# Altium footprint library NEW.PcbLib: 110 footprints (part 5 of 7)
Each footprint in its own frame and in the unit in brackets; x right, y up, seen from the top. Pads: shape width x height; smd on the part's side, far side on the other; paste and mask are expansions set on the pad; w line width, h text height; cw(c..) or ccw(c..) is an arc to the next point about the centre after c.
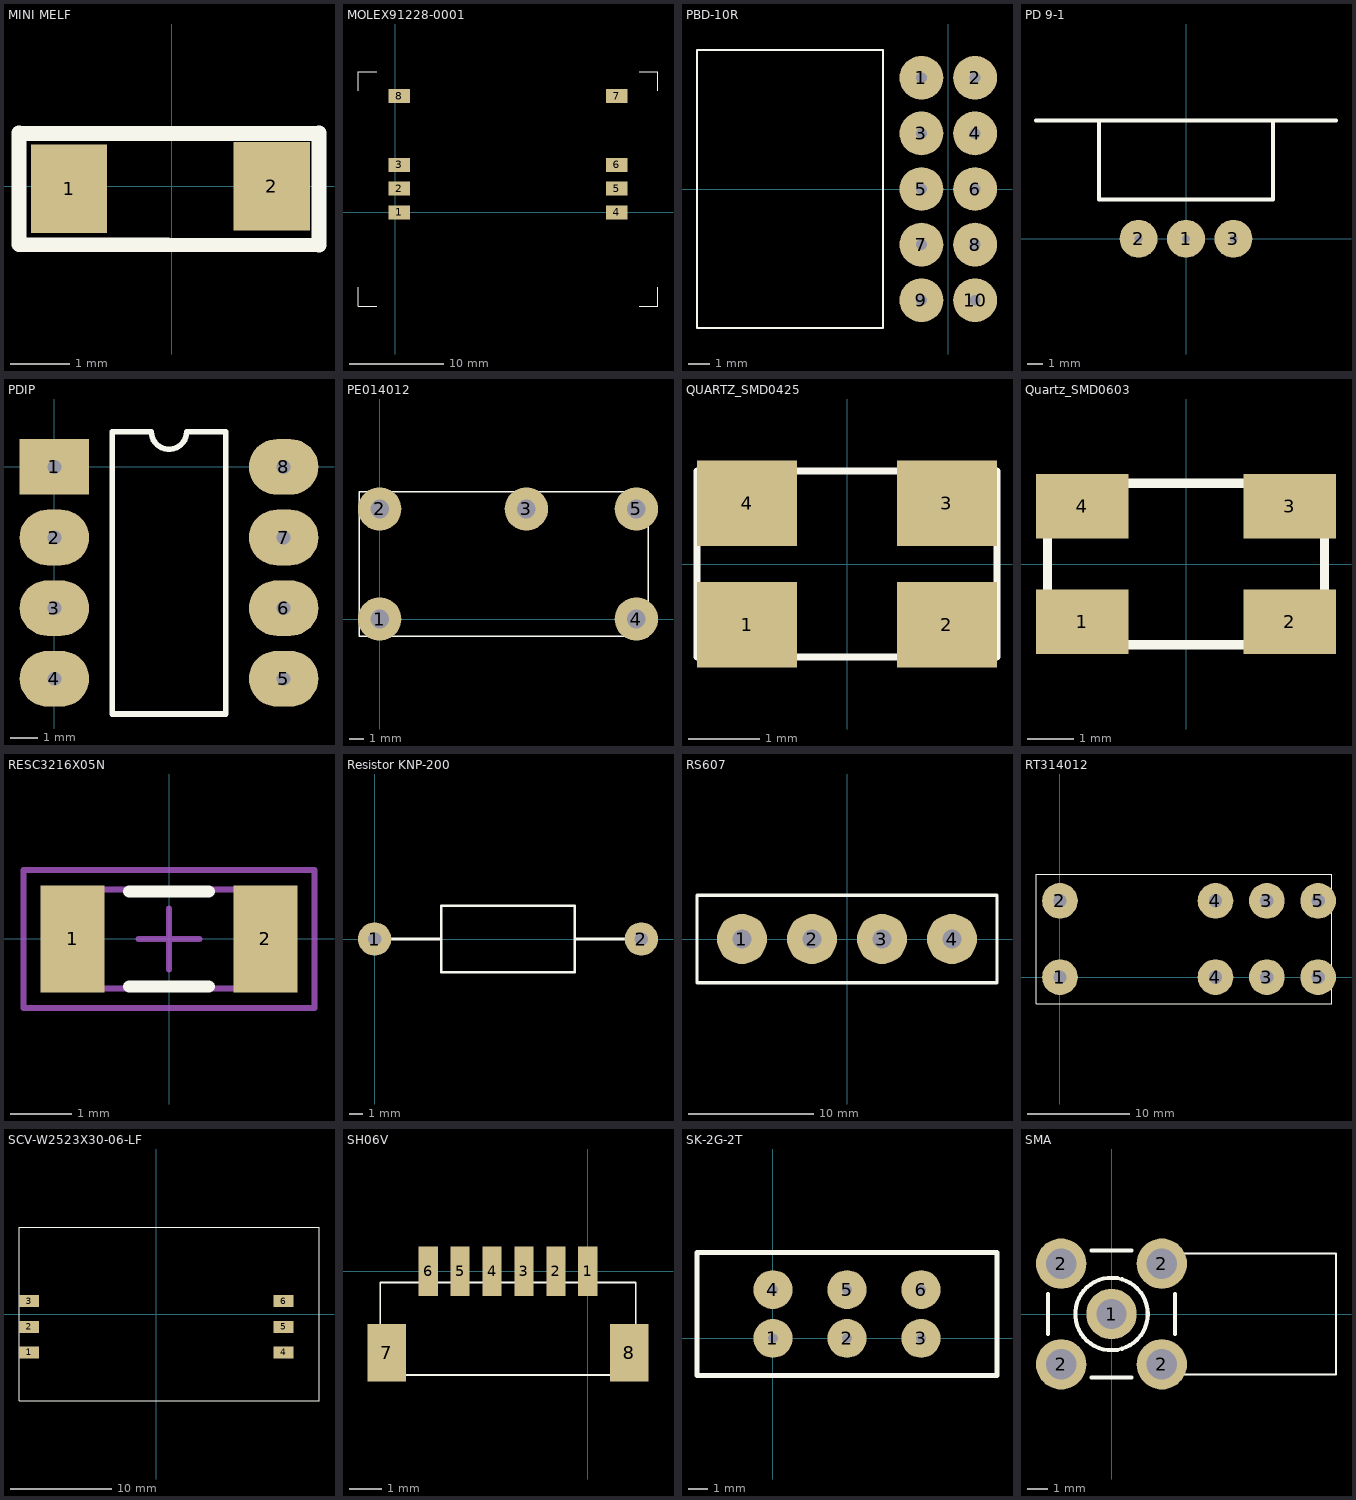
[diagram p4: the footprints below, top view; thin cyan lines are the x and y axes]

## MINI MELF [mm]
pads (2):
  rect 1.3x1.5 smd: 1(-1.75,-0.04) 2(1.7,0)
Top Overlay:
  lines w0.25: -2.6,0.9 2.5,0.9 ; -2.6,0.91 -2.6,-0.99 2.5,-1 ; 2.5,-0.99 2.5,0.91

## MOLEX91228-0001 [mm]
pads (8):
  rect 2.3x1.5 smd: 1(0.38,0) 2(0.38,2.54) 3(0.38,5.08) 4(23.6,0) 5(23.6,2.54) 6(23.6,5.08) 7(23.6,12.4) 8(0.38,12.4)
Top Overlay:
  lines w0.1: -4,-8 -4,-10 -2,-10 ; -4,13 -4,15 -2,15 ; 26,-10 28,-10 28,-8 ; 26,15 28,15 28,13

## PBD-10R [mm]
height 5
pads (10):
  round 2 hole 0.5: 1(-1.225,5.08) 2(1.225,5.08) 3(-1.225,2.54) 4(1.225,2.54) 5(-1.225,0) 6(1.225,0) 7(-1.225,-2.54) 8(1.225,-2.54) 9(-1.225,-5.08) 10(1.225,-5.08)
Top Overlay:
  lines w0.1: -11.475,-6.35 -2.975,-6.35 -2.975,6.35 -11.475,6.35 -11.475,-6.35

## PD 9-1 [mm]
pads (3):
  round 2.4 hole 0.5: 1(0,0) 2(-3,0) 3(3,0)
Top Overlay:
  lines w0.254: -9.5,7.5 9.5,7.5 ; -5.5,7.5 -5.5,2.5 5.5,2.5 5.5,7.5

## PDIP [mm]
pads (8):
  rect 2.5x2 hole 0.5: 1(0,0)
  oval 2.5x2 hole 0.5: 2(0,-2.54) 3(0,-5.08) 4(0,-7.62) 5(8.25,-7.62) 6(8.25,-5.08) 7(8.25,-2.54) 8(8.25,0)
Top Overlay:
  lines w0.2: 2.085,-8.89 6.165,-8.89 6.165,1.27 4.76,1.27 cw(c4.125,1.27) 3.49,1.27 2.085,1.27 2.085,-8.89

## PE014012 [mm]
height 10
pads (5):
  round 3 hole 1.3: 1(0,0) 2(0,7.62) 3(10.16,7.62) 4(17.78,0) 5(17.78,7.62)
Top Overlay:
  lines w0.1: -1.4,-1.19 18.6,-1.19 18.6,8.81 -1.4,8.81 -1.4,-1.19

## QUARTZ_SMD0425 [mm]
height 0.8
pads (4):
  rect 1.4x1.2 smd: 1(-1.4,-0.85) 2(1.4,-0.85) 3(1.4,0.85) 4(-1.4,0.85)
Top Overlay:
  lines w0.1: -2.1,-1.3 -2.1,1.3 2.1,1.3 2.1,-1.3 -2.1,-1.3

## Quartz_SMD0603 [mm]
height 1.1
pads (4):
  rect 2x1.4 smd: 1(-2.25,-1.25) 2(2.25,-1.25) 3(2.25,1.25) 4(-2.25,1.25)
Top Overlay:
  lines w0.2: -3,-1.75 -3,1.75 3,1.75 3,-1.75 -3,-1.75

## RESC3216X05N [mm] "Chip Resistor, 2-Leads, Body 3,3x1,6mm, IPC Medium Density"
height 0.5
pads (2):
  rect 1.05x1.75 smd: 1(-1.575,0) 2(1.575,0)
Top Overlay:
  lines w0.2: -0.65,-0.775 0.65,-0.775 ; -0.65,0.775 0.65,0.775
Mechanical 13:
  lines w0.1: -1.65,-0.81 1.65,-0.81 1.65,0.81 -1.65,0.81 -1.65,-0.81
Mechanical 15:
  lines w0.1: -0.5,0 0.5,0 ; 0,-0.5 0,0.5 ; -2.375,-1.125 2.375,-1.125 2.375,1.125 -2.375,1.125 -2.375,-1.125
3D body: height 0.5, standoff 0, extent -1.65,-0.81 1.65,0.81

## Resistor KNP-200 [mm]
height 7
pads (2):
  round 2.5 hole 1: 1(0,0) 2(20,0)
Top Overlay:
  lines w0.2: 0,0 5,0 ; 15,0 20,0 ; 5,-2.5 5,2.5 15,2.5 15,-2.5 5,-2.5

## RS607 [mm]
height 20
pads (4):
  round 4 hole 1.5: 1(-8.4,0) 2(-2.8,0) 3(2.8,0) 4(8.4,0)
Top Overlay:
  lines w0.254: -12,-3.5 -12,3.5 12,3.5 12,-3.5 -12,-3.5

## RT314012 [mm]
height 15.7
pads (8):
  round 3.5 hole 1.3: 1(0,0) 2(0,7.5) 3(20.3,0) 3(20.3,7.5) 4(15.26,0) 4(15.26,7.5) 5(25.34,0) 5(25.34,7.5)
Top Overlay:
  lines w0.1: -2.35,-2.6 26.65,-2.6 26.65,10.1 -2.35,10.1 -2.35,-2.6

## SCV-W2523X30-06-LF [mm] "SIM Cartreader"
height 2.3
pads (6):
  rect 2x1.2 smd: 1(-12.6,-3.81) 2(-12.6,-1.27) 3(-12.6,1.27) 4(12.6,-3.81) 5(12.6,-1.27) 6(12.6,1.27)
Top Overlay:
  lines w0.1: -13.6,-8.6 16.1,-8.6 16.1,8.6 -13.6,8.6 -13.6,-8.6

## SH06V [mm]
pads (8):
  rect 0.6x1.55 smd: 1(0,0) 2(-1,0) 3(-2,0) 4(-3,0) 5(-4,0) 6(-5,0)
  rect 1.2x1.8 smd: 7(-6.3,-2.55) 8(1.3,-2.55)
Top Overlay:
  lines w0.05: -6.5,-3.25 1.5,-3.25 1.5,-0.35 -6.5,-0.35 -6.5,-3.25

## SK-2G-2T [mm]
pads (6):
  round 2 hole 0.5: 1(0,0) 2(3.8,0) 3(7.6,0) 4(0,2.5) 5(3.8,2.5) 6(7.6,2.5)
Top Overlay:
  lines w0.254: -3.9,-1.9 11.5,-1.9 11.5,4.4 -3.9,4.4 -3.9,-1.9

## SMA [mm]
pads (5):
  round 2.5 hole 1.5: 1(0,0) 2(-2.5,-2.5) 2(-2.5,2.5) 2(2.5,-2.5) 2(2.5,2.5)
Top Overlay:
  circle w0.2: c0,0 r1.8
  lines w0.1: 3.15,-3 11.15,-3 11.15,3 3.15,3
  lines w0.2: -3.15,-1 -3.15,1 ; -1,-3.15 1,-3.15 ; -1,3.15 1,3.15 ; 3.15,-1 3.15,1